# Altium schematic symbol library Design III Symbols.SchLib: 64 symbols
Pins are listed as number, name and electrical type; pins without a type are passive.

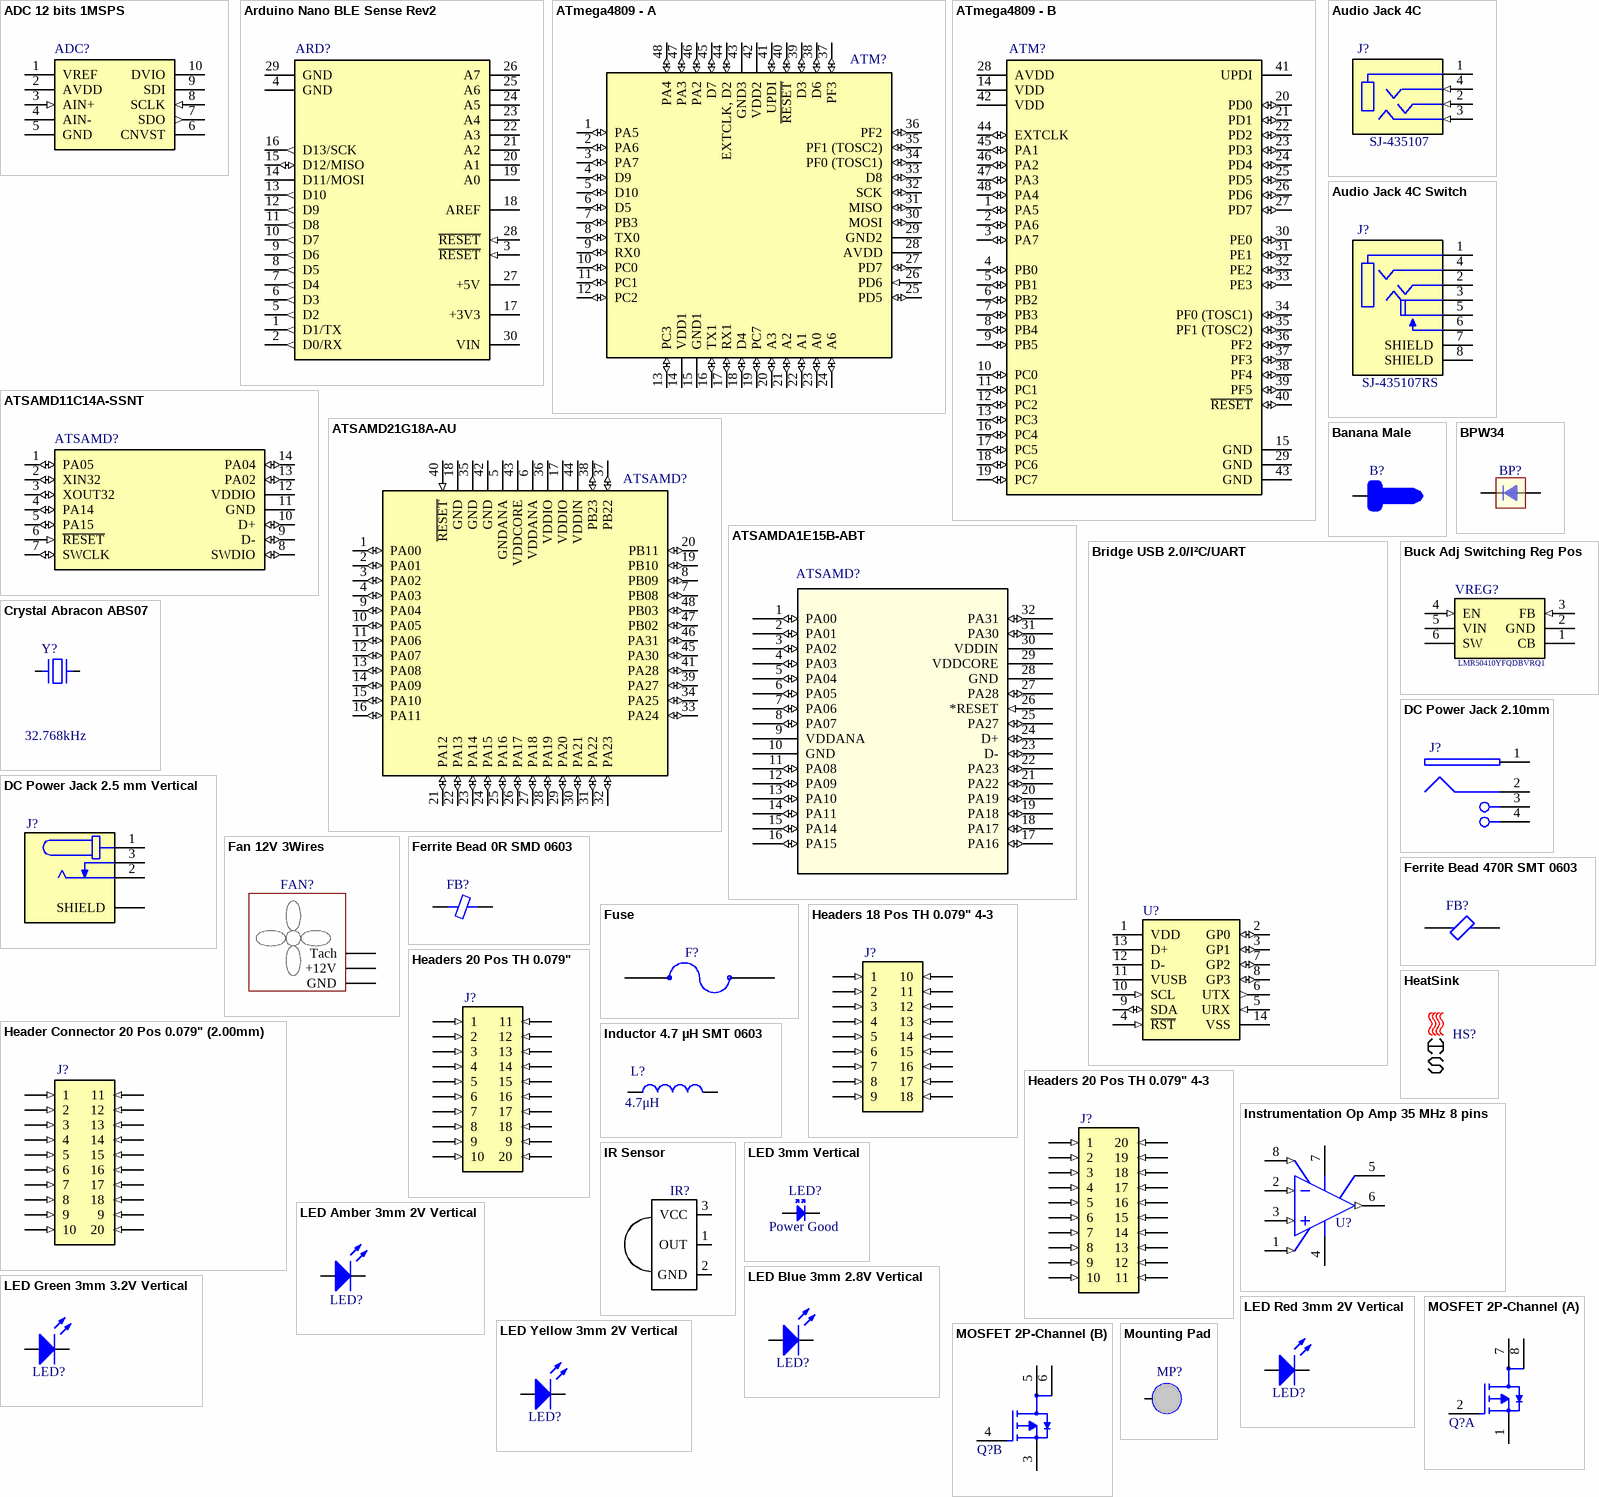
[diagram p0: symbols ADC 12 bits 1MSPS to Mounting Pad]

## ADC 12 bits 1MSPS
designator ADC?, comment MCP33141-10-E/MS  (value not drawn)
12 Bit Analog to Digital Converter 1 Input 1 SAR 10-MSOP; Supplier 1: Digi-Key; Supplier Part Number 1: MCP33141-10-E/MS-ND
footprint MCP33141-10-E/MS (12 Bit Analog to Digital Converter 1 Input 1 SAR 10-MSOP)
pins: 1 VREF (power), 2 AVDD (power), 3 AIN+ (in), 4 AIN-, 5 GND (power), 6 CNVST, 7 SDO (out), 8 SCLK (in), 9 SDI, 10 DVIO (power)

## Arduino Nano BLE Sense Rev2
designator ARD?
ABX00069, nRF52840 64MHz, 256 KB SRAM, 1MB flash, 14 I/O pins, 8 Analog inputs; Supplier 1: Digi-Key; Supplier Part Number 1: 1050-ABX00069-ND; ComponentLink1Description: Datasheet; ComponentLink1URL: https://docs.arduino.cc/static/65becb67a4b40fb616bb6af2730da4c7/ABX00069-datasheet.pdf; ComponentLink2Description: Pinout; ComponentLink2URL: https://docs.arduino.cc/static/9954a74bd83e85753daa710cb3e36c7d/ABX00069-full-pinout.pdf; ComponentLink3Description: Schematics; ComponentLink3URL: https://docs.arduino.cc/static/e36f3575dfede10661305c9971c3e7ed/ABX00069-schematics.pdf
footprint Arduino Nano BLE Sense Rev2 A (ABX00069, nRF52840 64MHz, 256 KB SRAM, 1MB flash, 14 I/O pins, 8 Analog inputs)
footprint Arduino Nano BLE Sense Rev2 B (ABX00069, nRF52840 64MHz, 256 KB SRAM, 1MB flash, 14 I/O pins, 8 Analog inputs)
pins: 1 D1/TX (out), 2 D0/RX (out), 3 ~{RESET} (in), 4 GND (power), 5 D2 (out), 6 D3 (out), 7 D4 (out), 8 D5 (out), 9 D6 (out), 10 D7 (out), 11 D8 (out), 12 D9 (out), 13 D10 (out), 14 D11/MOSI (hiz), 15 D12/MISO (io), 16 D13/SCK (out), 17 +3V3 (power), 18 AREF, 19 A0 (hiz), 20 A1 (hiz), 21 A2 (hiz), 22 A3 (hiz), 23 A4 (hiz), 24 A5 (hiz), 25 A6 (hiz), 26 A7 (hiz), 27 +5V (power), 28 ~{RESET} (in), 29 GND (power), 30 VIN (power)

## ATmega4809 - A
designator ATM?, comment ATMEGA4809-AU  (value not drawn)
AVR megaAVR® 0, Functional Safety (FuSa) Microcontroller IC 8-Bit 20MHz 48KB (24K x 16) FLASH 48-TQFP (7x7); Manufacturer_Name: Microchip; Manufacturer_Part_Number: ATMEGA4809-AFR; Geometry.Height: 1.2mm; Mouser Part Number: 556-ATMEGA4809-AFR; Mouser Price/Stock: https://www.mouser.co.uk/ProductDetail/Microchip-Technology-Atmel/ATMEGA4809-AFR?qs=lYGu3FyN48fyX8GjkvcD6Q%3D%3D; Arrow Part Number: ATMEGA4809-AFR; Arrow Price/Stock: https://www.arrow.com/en/products/atmega4809-afr/microchip-technology?region=nac; Datasheet Link: https://datasheet.datasheetarchive.com/originals/distributors/DKDS41/DSANUWW0026740.pdf; Supplier 1: Digi-Key; Supplier Part Number 1: ATMEGA4809-AFRCT-ND; Supplier 2: Digi-Key; Supplier Part Number 2: ATMEGA4809-AFRDKR-ND
footprint ATmega4809 (AVR megaAVR® 0, Functional Safety (FuSa) Microcontroller IC 8-Bit 20MHz 48KB (24K x 16) FLASH 48-TQFP (7x7))
pins: 1 PA5 (io), 2 PA6 (io), 3 PA7 (io), 4 D9 (io), 5 D10 (io), 6 D5 (io), 7 PB3 (io), 8 TX0 (io), 9 RX0 (io), 10 PC0 (io), 11 PC1 (io), 12 PC2 (io), 13 PC3 (io), 14 VDD1 (power), 15 GND1 (power), 16 TX1 (io), 17 RX1 (io), 18 D4 (io), 19 PC7 (io), 20 A3 (io), 21 A2 (io), 22 A1 (io), 23 A0 (io), 24 A6 (io), 25 PD5 (io), 26 PD6 (in), 27 PD7 (io), 28 AVDD (power), 29 GND2 (power), 30 MOSI (io), 31 MISO (io), 32 SCK (io), 33 D8 (io), 34 PF0 (TOSC1) (io), 35 PF1 (TOSC2) (io), 36 PF2 (io), 37 PF3 (io), 38 D6 (io), 39 D3 (io), 40 ~{RESET} (io), 41 UPDI (io), 42 VDD2 (power), 43 GND3 (power), 44 EXTCLK, D2 (io), 45 D7 (io), 46 PA2 (io), 47 PA3 (io), 48 PA4 (io)

## ATmega4809 - B
designator ATM?, comment ATMEGA4809-AU  (value not drawn)
MICROCHIP - ATMEGA4809-AFR - MCU, 8BIT, ATMEGA, 20MHZ, TQFP-48; Supplier 1: Digi-Key; Supplier Part Number 1: 150-ATMEGA4809-AU-ND; Supplier 2: Digi-Key; Supplier Part Number 2: 150-ATMEGA4809-AURCT-ND; Supplier 3: Digi-Key; Supplier Part Number 3: 150-ATMEGA4809-AURDKR-ND; Supplier 4: Digi-Key; Supplier Part Number 4: 150-ATMEGA4809-AURTR-ND
footprint ATmega4809 (AVR megaAVR® 0, Functional Safety (FuSa) Microcontroller IC 8-Bit 20MHz 48KB (24K x 16) FLASH 48-TQFP (7x7))
pins: 1 PA5 (io), 2 PA6 (io), 3 PA7 (io), 4 PB0 (io), 5 PB1 (io), 6 PB2 (io), 7 PB3 (io), 8 PB4 (io), 9 PB5 (io), 10 PC0 (io), 11 PC1 (io), 12 PC2 (io), 13 PC3 (io), 14 VDD (power), 15 GND (oe), 16 PC4 (io), 17 PC5 (io), 18 PC6 (io), 19 PC7 (io), 20 PD0 (io), 21 PD1 (io), 22 PD2 (io), 23 PD3 (io), 24 PD4 (io), 25 PD5 (io), 26 PD6 (io), 27 PD7 (io), 28 AVDD (power), 29 GND (power), 30 PE0 (io), 31 PE1 (io), 32 PE2 (io), 33 PE3 (io), 34 PF0 (TOSC1) (io), 35 PF1 (TOSC2) (io), 36 PF2 (io), 37 PF3 (io), 38 PF4 (io), 39 PF5 (io), 40 ~{RESET} (io), 41 UPDI, 42 VDD (power), 43 GND (power), 44 EXTCLK (io), 45 PA1 (io), 46 PA2 (io), 47 PA3 (io), 48 PA4 (io)

## ATSAMD11C14A-SSNT
designator ATSAMD?
ARM® Cortex®-M0+ SAM D11C Microcontroller IC 32-Bit Single-Core 48MHz 16KB (16K x 8) FLASH 14-SOIC; Supplier 1: Digi-Key; Supplier Part Number 1: ATSAMD11C14A-SSNTCT-ND; Supplier 2: Digi-Key; Supplier Part Number 2: ATSAMD11C14A-SSNTDKR-ND
footprint ATSAMD11C14A-SSNT (ARM® Cortex®-M0+ SAM D11C Microcontroller IC 32-Bit Single-Core 48MHz 16KB (16K x 8) FLASH 14-SOIC)
pins: 1 PA05 (io), 2 XIN32 (io), 3 XOUT32 (io), 4 PA14 (io), 5 PA15 (io), 6 ~{RESET} (in), 7 SWCLK (io), 8 SWDIO (io), 9 D- (io), 10 D+ (io), 11 GND (power), 12 VDDIO (power), 13 PA02 (io), 14 PA04 (io)

## ATSAMD21G18A-AU
designator ATSAMD?
ARM® Cortex®-M0+ SAM D21G, Functional Safety (FuSa) Microcontroller IC 32-Bit Single-Core 48MHz 256KB (256K x 8) FLASH 48-TQFP (7x7); Supplier 1: Digi-Key; Supplier Part Number 1: ATSAMD21G18A-AU-ND; ComponentLink1Description: Datasheet; ComponentLink1URL: https://ww1.microchip.com/downloads/en/DeviceDoc/SAM-D21-DA1-Family-Data-Sheet-DS40001882H.pdf; ComponentLink2Description: Arduino Zero; ComponentLink2URL: https://docs.arduino.cc/hardware/zero
footprint ATSAMD21G18-AU (ARM® Cortex®-M0+ SAM D21G, Functional Safety (FuSa) Microcontroller IC 32-Bit Single-Core 48MHz 256KB (256K x 8) FLASH 48-TQFP (7x7))
pins: 1 PA00 (io), 2 PA01 (io), 3 PA02 (io), 4 PA03 (io), 5 GNDANA (power) "Ground for the analog power domain", 6 VDDANA (power) "Analog supply voltage", 7 PB08 (io), 8 PB09 (io), 9 PA04 (io), 10 PA05 (io), 11 PA06 (io), 12 PA07 (io), 13 PA08 (io), 14 PA09 (io), 15 PA10 (io), 16 PA11 (io), 17 VDDIO (power) "Digital supply voltage", 18 GND (power) "Ground", 19 PB10 (io), 20 PB11 (io), 21 PA12 (io), 22 PA13 (io), 23 PA14 (io), 24 PA15 (io), 25 PA16 (io), 26 PA17 (io), 27 PA18 (io), 28 PA19 (io), 29 PA20 (io), 30 PA21 (io), 31 PA22 (io), 32 PA23 (io), 33 PA24 (io), 34 PA25 (io), 35 GND (power) "Ground", 36 VDDIO (power) "Digital supply voltage", 37 PB22 (io), 38 PB23 (io), 39 PA27 (io), 40 ~{RESET} (in) "Reset pin", 41 PA28 (io), 42 GND (power) "Ground", 43 VDDCORE (power) "Core supply voltage / external decoupling pin", 44 VDDIN (power), 45 PA30 (io), 46 PA31 (io), 47 PB02 (io), 48 PB03 (io)

## ATSAMDA1E15B-ABT
designator ATSAMD?
ARM® Cortex®-M0+ SAM DA1, Functional Safety (FuSa) Microcontroller IC 32-Bit Single-Core 48MHz 32KB (32K x 8) FLASH 32-TQFP (7x7); Supplier 1: Digi-Key; Supplier Part Number 1: ATSAMDA1E15B-ABTCT-ND; Supplier 2: Digi-Key; Supplier Part Number 2: ATSAMDA1E15B-ABTDKR-ND
footprint ATSAMDA1E15B-ABT
pins: 1 PA00 (io), 2 PA01 (io), 3 PA02 (io), 4 PA03 (io), 5 PA04 (io), 6 PA05 (io), 7 PA06 (io), 8 PA07 (io), 9 VDDANA (power), 10 GND (power), 11 PA08 (io), 12 PA09 (io), 13 PA10 (io), 14 PA11 (io), 15 PA14 (io), 16 PA15 (io), 17 PA16 (io), 18 PA17 (io), 19 PA18 (io), 20 PA19 (io), 21 PA22 (io), 22 PA23 (io), 23 D- (io), 24 D+ (io), 25 PA27 (io), 26 *RESET (in), 27 PA28 (io), 28 GND (power), 29 VDDCORE (power), 30 VDDIN (power), 31 PA30 (io), 32 PA31 (io)

## Audio Jack 4C
designator J?, comment SJ-435107
Female 4C/4C Shielded Through Hole Right Angle 3.5 mm Audio Jack; Availability: Unavailable; Price: None; Package: None; MP: SJ-435107; Value: *; Supplier 1: Digi-Key; Supplier Part Number 1: CP-435107-ND; Supplier 2: Digi-Key; Supplier Part Number 2: CP-435107RS-ND
footprint Audio Jack 4 cond
footprint Audio Jack 4 cond 3D
pins: 1 SLEEVE (power), 2 TIP (in), 3 RING1 (in), 4 RING2 (in)

## Audio Jack 4C Switch
designator J?, comment SJ-435107RS
3.5 mm Right Angle Shielded (0.141", 1/8", Mini Plug) Female HeadPhone Jack; Availability: Unavailable; Price: None; Package: None; MP: SJ-435107RS; Value: *; Supplier 1: Digi-Key; Supplier Part Number 1: CP-435107RS-ND
footprint Audio Jack 4C Switch
footprint Audio Jack 4C Switch 3D
pins: 1 SLEEVE, 2 TIP, 3 RING1, 4 RING2, 5 ISOLATED_RING1, 6 ISOLATED_RING1_SWITCH(N-O), 7 SHIELD, 8 SHIELD

## Banana Male
designator B?
footprint Banane Male (Johnson 108-0753-001)
pins: 1

## BPW34
designator BP?
Photodiode
footprint BPW34 (BPW34 Trough Hole)
pins: 1, 2

## Bridge USB 2.0/I²C/UART
designator U?, comment MCP2221A-I/SL  (value not drawn)
USB Bridge, USB to I²C/UART USB 2.0 I²C, UART Interface 14-SOIC; USB Standard: USB 2.0; Max Supply Voltage: 5.5V; Supplier 1: Digi-Key; Supplier Part Number 1: MCP2221A-I/SL-ND
footprint MCP2221A-I/SL (USB Bridge, USB to I²C/UART USB 2.0 I²C, UART Interface 14-SOIC)
pins: 1 VDD (power), 2 GP0 (io), 3 GP1 (io), 4 ~{RST} (in), 5 URX (in), 6 UTX (out), 7 GP2 (io), 8 GP3 (io), 9 SDA (io), 10 SCL (in), 11 VUSB (power), 12 D- (power), 13 D+ (power), 14 VSS (power)
text: /

## Buck Adj Switching Reg Pos
designator VREG?, comment LMR50410YFQDBVRQ1
Buck Switching Regulator IC Positive Adjustable 1V 1 Output 1A SOT-23-6; Manufacturer_Name: Texas Instruments; Datasheet Link: https://www.ti.com/product/LMR50410-Q1; Height: 1.45mm; Manufacturer_Part_Number: LMR50410YFQDBVRQ1; Mouser Part Number: 595-MR50410YFQDBVRQ1; Mouser Price/Stock: https://www.mouser.co.uk/ProductDetail/Texas-Instruments/LMR50410YFQDBVRQ1?qs=81r%252BiQLm7BRUAgUFqYZycA%3D%3D; Arrow Part Number: LMR50410YFQDBVRQ1; Arrow Price/Stock: https://www.arrow.com/en/products/lmr50410yfqdbvrq1/texas-instruments?region=nac; Supplier 1: Digi-Key; Supplier Part Number 1: 296-LMR50410YFQDBVRQ1CT-ND; Supplier 2: Digi-Key; Supplier Part Number 2: 296-LMR50410YFQDBVRQ1DKR-ND; Supplier 3: Digi-Key; Supplier Part Number 3: 296-LMR50410YFQDBVRQ1TR-ND
footprint LMR50410YFQDBVRQ1 (Buck Switching Regulator IC Positive Adjustable 1V 1 Output 1A SOT-23-6)
pins: 1 CB (power), 2 GND (power), 3 FB (in), 4 EN (in), 5 VIN (power), 6 SW (power)

## Crystal Abracon ABS07
designator Y?, comment value 32.768kHz  (hidden comment: ABS07-120-32.768KHZ-T)
32.768 kHz ±20ppm Crystal 6pF 55 kOhms 2-SMD, No Lead; Manufacturer: Abracon LLC; Operating Mode: Fundamental; Part Number: ABS07-120-32.768KHZ-T; ComponentLink1Description: Datasheet; ComponentLink1URL: https://abracon.com/Resonators/ABS07-120-32.768kHz-T.pdf; ComponentLink2Description: DigiKey Link; ComponentLink2URL: https://www.digikey.com/en/products/detail/abracon-llc/ABS07-120-32-768KHZ-T/3724043; ESR (Equivalent Series Resistance): 55 kOhms; Frequency Tolerance: ±20ppm; Height - Seated (Max): 0.035" (0.90mm); LastUpdated: 2023-03-06 20:57:22; Lifecycle Status: Active; Load Capacitance: 6pF; Minimum Order: 1; Mounting Type: Surface Mount; Operating Temperature: -40°C ~ 85°C; Package / Case: 2-SMD, No Lead; Packaging: TapeAndReel; PartId: 385; Part Status: Active; Price: 0.44; Series: ABS07; Size / Dimension: 0.126" L x 0.059" W (3.20mm x 1.50mm); Type: kHz Crystal (Tuning Fork); Supplier 1: Digi-Key; Supplier Part Number 1: 535-11937-1-ND; Supplier 2: Digi-Key; Supplier Part Number 2: 535-11937-6-ND; Supplier 3: Digi-Key; Supplier Part Number 3: 535-11937-2-ND; Frequency: 32.768 kHz
footprint ABS07-120-32.768KHZ-T A (32.768 kHz ±20ppm Crystal 6pF 55 kOhms 2-SMD, No Lead)
footprint ABS07-120-32.768KHZ-T B (32.768 kHz ±20ppm Crystal 6pF 55 kOhms 2-SMD, No Lead)
pins: 1, 2

## DC Power Jack 2.5 mm Vertical
designator J?, comment PJ-090BH  (value not drawn)
Power Barrel Connector Jack 2.50mm ID (0.098"), 5.50mm OD (0.217") Through Hole; Shielding: Shielded; Voltage Rating: 25V; Current Rating: 5A; Min Operating Temperature: -25°C; Max Operating Temperature: 85°C; Contact Material - Plating: Silver; Housing Material: Polyamide (PA10T), Nylon 10T; Contact Material: Brass, Copper Alloy; Supplier 1: Digi-Key; Supplier Part Number 1: 2223-PJ-090BHCT-ND; Supplier 2: Digi-Key; Supplier Part Number 2: 2223-PJ-090BHDKR-ND; Supplier 3: Digi-Key; Supplier Part Number 3: 2223-PJ-090BHTR-ND
footprint DC Power Jack 2.5 mm (Power Barrel Connector Jack 2.50mm ID (0.098"), 5.50mm OD (0.217") Through Hole)
pins: 1, 2, 3, S1 SHIELD

## DC Power Jack 2.10mm
designator J?, comment PJ-063AH  (value not drawn)
Power Barrel Connector Jack 2.10mm ID (0.083"), 5.50mm OD (0.217") Through Hole, Right Angle; Current Rating: 8A; Shielding: Shielded; Voltage Rating: 24V; Insulation Resistance: 100MR; Number of Conductors: 2; Supplier 1: Digi-Key; Supplier Part Number 1: CP-063AH-ND; ComponentLink1Description: Datasheet; ComponentLink1URL: https://www.cuidevices.com/product/resource/pj-063ah.pdf; Max Operating Temperature: 85°C; Min Operating Temperature: -25°C; Contact Material: Copper; Contact Plating: Nickel; Flammability Rating: UL94 V-0
footprint DC Power Jack 2.1mm (PJ-063AH)
pins: 1, 2, 3 SHLD, 4 SHLD

## Fan 12V 3Wires
designator FAN?  (value not drawn)
footprint FAN 12V 3 WIRES + HS
pins: 1 GND (power), 2 +12V (power), 3 Tach

## Ferrite Bead 0R SMD 0603
designator FB?, comment MFBM1V1608-000-R  (value not drawn)
0Ω 1 Power Line Ferrite Bead 0603 (1608 Metric) 6A 20mOhm; Manufacturer: Eaton - Electronics Division; Impedance @ Frequency: 0 Ohms @ 100 MHz; Number of Lines: 1; Value: 0 Ohms @ 100 MHz; Part Number: MFBM1V1608-000-R; ComponentLink1Description: Datasheet; ComponentLink1URL: https://www.eaton.com/content/dam/eaton/products/electronic-components/resources/data-sheet/eaton-mfbm1v1608-high-current-multilayer-ferrite-chip-bead-data-sheet.pdf; ComponentLink2Description: DigiKey Link; ComponentLink2URL: https://www.digikey.com/en/products/detail/eaton-electronics-division/MFBM1V1608-000-R/13161356; Current Rating (Max): 6A; DC Resistance (DCR) (Max): 20mOhm; Device Package: 0603 (1608 Metric); Filter Type: Power Line; Height (Max): 0.039" (1.00mm); LastUpdated: 2023-03-12 7:51:35 PM; Lifecycle Status: Active; Minimum Order: 1; Mounting Type: Surface Mount; Operating Temperature: -40°C ~ 85°C; Package / Case: 0603 (1608 Metric); Packaging: TapeAndReel; PartId: 2605; Part Status: Active; Price: 0.01; Series: MFBM1V1608; Size / Dimension: 0.063" L x 0.031" W (1.60mm x 0.80mm); Supplier 1: Digi-Key; Supplier Part Number 1: 283-MFBM1V1608-000-RCT-ND; Supplier 2: Digi-Key; Supplier Part Number 2: 283-MFBM1V1608-000-RDKR-ND
footprint Eaton Ferrite Bead 0603 (Power Line Ferrite Bead 0603 (1608 Metric))
pins: 1, 2

## Ferrite Bead 470R SMT 0603
designator FB?, comment BLM18PG471SN1D  (value not drawn)
470 Ω @ 100 MHz 1 Power Line Ferrite Bead 0603 (1608 Metric) 1A 200mOhm; Manufacturer: Murata Electronics; Impedance @ Frequency: 470 Ohms @ 100 MHz; Number of Lines: 1; Part Number: BLM18PG471SN1D; ComponentLink1Description: Datasheet; ComponentLink1URL: https://www.murata.com/en-us/products/productdata/8796738650142/ENFA0003.pdf; ComponentLink2Description: DigiKey Link; ComponentLink2URL: https://www.digikey.com/en/products/detail/murata-electronics/BLM18PG471SN1D/1948328; Current Rating (Max): 1A; DC Resistance (DCR) (Max): 200mOhm; Device Package: 0603 (1608 Metric); Filter Type: Power Line; Height (Max): 0.037" (0.95mm); LastUpdated: 2023-03-06 20:49:55; Lifecycle Status: Active; Minimum Order: 1; Mounting Type: Surface Mount; Operating Temperature: -55°C ~ 125°C; Package / Case: 0603 (1608 Metric); Packaging: TapeAndReel; PartId: 856; Part Status: Active; Price: 0.02; Series: EMIFIL®, BLM18; Size / Dimension: 0.063" L x 0.032" W (1.60mm x 0.80mm); Value: 470 Ω @ 100 MHz; Supplier 1: Digi-Key; Supplier Part Number 1: 490-5223-1-ND; Supplier 2: Digi-Key; Supplier Part Number 2: 490-5223-6-ND; Supplier 3: Digi-Key; Supplier Part Number 3: 490-5223-2-ND
footprint Ferrite Bead 470R SMT 0603 (470 Ohms @ 100 MHz 1 Power Line Ferrite Bead 0603 (1608 Metric) 1A 200mOhm)
pins: 1, 2

## Fuse
designator F?
Fuse
footprint Fuse Holder 3mm
pins: 1, 2

## Header Connector 20 Pos 0.079" (2.00mm)
designator J?, comment NPPN102AFCN-RC  (value not drawn)
20 Position Header Connector 0.079" (2.00mm) Through Hole Gold; Supplier 1: Digi-Key; Supplier Part Number 1: S5750-10-ND
footprint Header Connector 20 Pos 0.079" (2.00mm) - A (20 Position Header Connector 0.079" (2.00mm) Through Hole Gold)
footprint Header Connector 20 Pos 0.079" (2.00mm) - B
pins: 1 (in), 2 (in), 3 (in), 4 (in), 5 (in), 6 (in), 7 (in), 8 (in), 9 (in), 10 (in), 11 (in), 12 (in), 13 (in), 14 (in), 15 (in), 16 (in), 17 (in), 18 (in), 19 9 (in), 20 (in)

## Headers 18 Pos TH 0.079" 4-3
designator J?, comment BF050-18-A-B-0400-0300-L-G  (value not drawn)
Connector Header Through Hole 18 position 0.079" (2.00mm); Supplier 1: Digi-Key; Supplier Part Number 1: 2073-BF050-18-A-B-0400-0300-L-G-ND
footprint Headers 20 Pos TH 0.079" A (Connector Header Through Hole 20 position 0.079" (2.00mm))
footprint Headers 20 Pos TH 0.079" B (Connector Header Through Hole 20 position 0.079" (2.00mm))
pins: 1 (in), 2 (in), 3 (in), 4 (in), 5 (in), 6 (in), 7 (in), 8 (in), 9 (in), 10 (in), 11 (in), 12 (in), 13 (in), 14 (in), 15 (in), 16 (in), 17 (in), 18 (in)

## Headers 20 Pos TH 0.079"
designator J?, comment BF050-20-A-B-0600-0300-L-G  (value not drawn)
Connector Header Through Hole 20 position 0.079" (2.00mm); Supplier 1: Digi-Key; Supplier Part Number 1: 2073-BF050-20-A-B-0600-0300-L-G-ND
footprint Headers 20 Pos TH 0.079" A (Connector Header Through Hole 20 position 0.079" (2.00mm))
footprint Headers 20 Pos TH 0.079" B (Connector Header Through Hole 20 position 0.079" (2.00mm))
pins: 1 (in), 2 (in), 3 (in), 4 (in), 5 (in), 6 (in), 7 (in), 8 (in), 9 (in), 10 (in), 11 (in), 12 (in), 13 (in), 14 (in), 15 (in), 16 (in), 17 (in), 18 (in), 19 9 (in), 20 (in)

## Headers 20 Pos TH 0.079" 4-3
designator J?, comment BF050-20-A-B-0400-0300-L-G  (value not drawn)
Connector Header Through Hole 20 position 0.079" (2.00mm); Supplier 1: Digi-Key; Supplier Part Number 1: 2073-BF050-20-A-B-0400-0300-L-G-ND
footprint Headers 20 Pos TH 0.079" 4-3 - A (Connector Header Through Hole 20 position 0.079" (2.00mm))
footprint Headers 20 Pos TH 0.079" 4-3 - B (Connector Header Through Hole 20 position 0.079" (2.00mm))
pins: 1 (in), 2 (in), 3 (in), 4 (in), 5 (in), 6 (in), 7 (in), 8 (in), 9 (in), 10 (in), 11 (in), 12 (in), 13 (in), 14 (in), 15 (in), 16 (in), 17 (in), 18 (in), 19 (in), 20 (in)

## HeatSink
designator HS?  (value not drawn)
footprint FAN 12V 3 WIRES + HS
footprint HeatSink V8511W Assmann

## Inductor 4.7 µH SMT 0603
designator L?, comment value 4.7μH  (hidden comment: ILSB0603ER4R7K)
4.7 µH Shielded Multilayer Inductor 15 mA 2.1Ohm Max 0603 (1608 Metric); Tolerance: 10%; Core Material: Ferrite; Self Resonant Frequency: 41MHz; Case Code (Imperial): 1206; Min Operating Temperature: -55°C; Max Operating Temperature: 125°C; Width: 1.6mm; Depth: 1.8mm; Weight: 0.000353oz; ComponentLink1Description: Datasheet; ComponentLink1URL: https://www.vishay.com/docs/34029/ilsb1206.pdf; Supplier 1: Digi-Key; Supplier Part Number 1: 541-4369-1-ND; Supplier 2: Digi-Key; Supplier Part Number 2: 541-4369-6-ND
footprint Inductor 4.7 uH SMT 0603 (4.7 µH Shielded Multilayer Inductor 15 mA 2.1Ohm Max 0603 (1608 Metric))
pins: 1, 2

## Instrumentation Op Amp 35 MHz 8 pins
designator U?, comment MCP6N11-100E/SN  (value not drawn)
Instrumentation Amplifier 1 Circuit Rail-to-Rail 8-SOIC; Supplier 1: Digi-Key; Supplier Part Number 1: MCP6N11-100E/SN-ND
footprint MCP6N11-100E/SN (Instrumentation Amplifier 1 Circuit Rail-to-Rail 8-SOIC)
pins: 1 VFG (in), 2 VIM (in), 3 VIP (in), 4 VSS (power), 5 VREF (power), 6 VOUT (out), 7 VDD (power), 8 EN/~{CAL} (in)

## IR Sensor
designator IR?, comment TSOP34338  (value not drawn)
IR Sensor
footprint TSOP (IR Sensor)
pins: 1 OUT, 2 GND, 3 VCC

## LED 3mm Vertical
designator LED?, comment Power Good
LED 3mm
footprint LED 3mm Vertical
pins: 1 A, 2 K

## LED Amber 3mm 2V Vertical
designator LED?, comment INL-3AA30  (value not drawn)
Amber 610nm LED Indication - Discrete 2V Radial; Supplier 1: Digi-Key; Supplier Part Number 1: 1830-1001-ND
footprint Led 3 mm Vertical Clear
pins: 1 K, 2 A

## LED Blue 3mm 2.8V Vertical
designator LED?, comment 151033BS03000  (value not drawn)
Blue 470nm LED Indication - Discrete 2.8V Radial; Operating Voltage: 2.8V; Supplier 1: Digi-Key; Supplier Part Number 1: 732-5011-ND
footprint Led 3 mm Vertical Clear
pins: 1 K, 2 A

## LED Green 3mm 3.2V Vertical
designator LED?, comment 151033GS03000  (value not drawn)
Green 530nm LED Indication - Discrete 3.2V Radial; Supplier 1: Digi-Key; Supplier Part Number 1: 732-5012-ND; Operating Voltage: 3.2V
footprint Led 3 mm Vertical Clear
pins: 1 K, 2 A

## LED Red 3mm 2V Vertical
designator LED?, comment 151033RS03000  (value not drawn)
Red 621nm LED Indication - Discrete 2V Radial; Operating Voltage: 2V; Supplier 1: Digi-Key; Supplier Part Number 1: 732-5013-ND
footprint Led 3 mm Vertical Clear
pins: 1 K, 2 A

## LED Yellow 3mm 2V Vertical
designator LED?, comment 151033YS03000  (value not drawn)
Yellow 589nm LED Indication - Discrete 2V Radial; Supplier 1: Digi-Key; Supplier Part Number 1: 732-5014-ND
footprint Led 3 mm Vertical Clear
pins: 1 K, 2 A

## MOSFET 2P-Channel
designator Q?, comment IRF9362TRPBF  (value not drawn)
MOSFET 2P-CH 30V 8A 8SOIC; Turn-Off Delay Time: 115ns; Input Capacitance: 1.3nF; Rds On Max: 21mR; Drain to Source Resistance: 32mR; Threshold Voltage: -1.8V; Drain to Source Voltage (Vdss): -30V; Max Power Dissipation: 2W; Gate to Source Voltage (Vgs): 20V; Turn-On Delay Time: 5.2ns; REACH SVHC: No SVHC; Height: 0.059inch; Length: 0.196inch; RoHS Compliant: Yes; Series: HEXFET®; Min Operating Temperature: -55°C; Mount: Surface Mount; Width: 0.157inch; Lead Free: Lead Free; Case/Package: SO; Halogen Free: Halogen Free; Power Dissipation: 2W; Number of Pins: 8; Continuous Drain Current (ID): 8A; Max Operating Temperature: 150°C; Max Dual Supply Voltage: -30V; Packaging: Cut Tape; Supplier 1: Digi-Key; Supplier Part Number 1: IRF9362TRPBFCT-ND; Supplier 2: Digi-Key; Supplier Part Number 2: IRF9362TRPBFDKR-ND; Supplier 3: Digi-Key; Supplier Part Number 3: IRF9362TRPBFTR-ND
footprint MOSFET 2P-Channel
part A pins: 1 S1, 2 G1, 7 D1, 8 D1
part B pins: 3 S2, 4 G2, 5 D2, 6 D2

## Mounting Pad
designator MP?  (value not drawn)
footprint Mounting Hole
footprint Poteau Keystone 9082
pins: 0

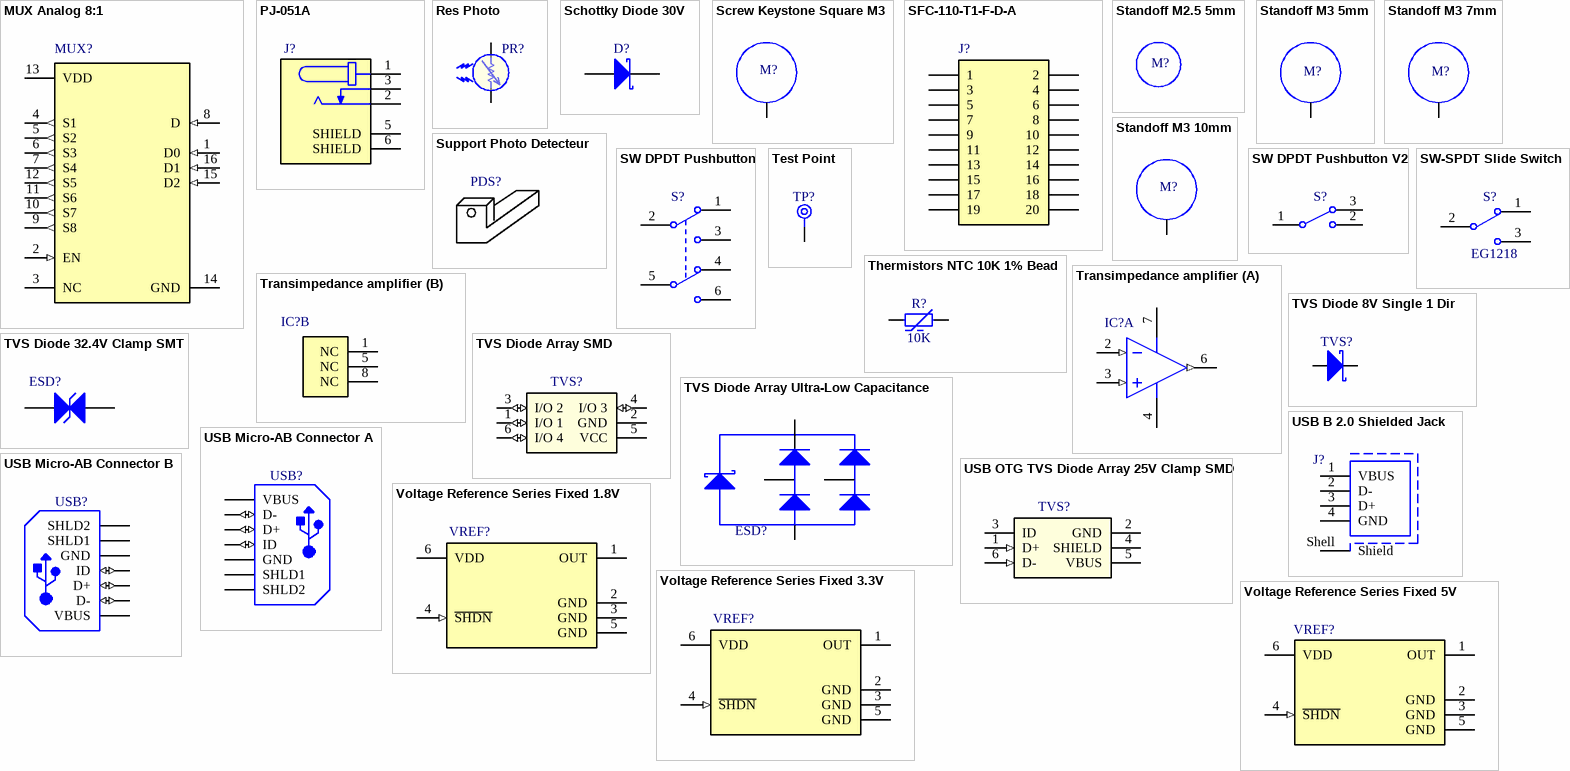
[diagram p1: symbols MUX Analog 8:1 to Voltage Reference Series Fixed 5V]

## MUX Analog 8:1
designator MUX?, comment TMUX1208PWR  (value not drawn)
5-V, 8: 1, 1-channel general-purpose analog multiplexer with 1.8-V input logic 16-TSSOP -40 to 125; Supplier 1: Digi-Key; Supplier Part Number 1: 296-51847-1-ND; Supplier 2: Digi-Key; Supplier Part Number 2: 296-51847-6-ND; Supplier 3: Digi-Key; Supplier Part Number 3: 296-51847-2-ND; ComponentLink1Description: Datasheet; ComponentLink1URL: https://www.ti.com/lit/ds/symlink/tmux1208.pdf?HQS=dis-dk-null-digikeymode-dsf-pf-null-wwe&ts=1678139087624&ref_url=https%253A%252F%252Fwww.ti.com%252Fgeneral%252Fdocs%252Fsuppproductinfo.tsp%253FdistId%253D10%2526gotoUrl%253Dhttps%253A%252F%252Fwww.ti.com%252Flit%252Fgpn%252Ftmux1208
footprint TMUX1208PWR (1 Circuit IC Switch 8:1 3Ohm (Typ) 16-TSSOP)
pins: 1 D0 (in), 2 EN (in), 3 NC (hiz), 4 S1 (out), 5 S2 (out), 6 S3 (out), 7 S4 (out), 8 D (in), 9 S8 (out), 10 S7 (out), 11 S6 (out), 12 S5 (out), 13 VDD (power), 14 GND (power), 15 D2 (in), 16 D1 (in)

## PJ-051A
designator J?  (value not drawn)
2.0 mm Center Pin, 2.5 A, Right Angle, Through Hole, Shielded, Dc Power Jack Connector; Value: *; Availability: Unavailable; Price: None; Package: None; MP: PJ-051A; Supplier 1: Digi-Key; Supplier Part Number 1: CP-051A-ND
footprint PJ-051A (DC Power Barrel Jack)
footprint PJ-051A 3D (DC Power Barrel Jack)
pins: 1 (power), 2 (power) "GND", 3 (power), 5 SHIELD (power), 6 SHIELD (power)

## Res Photo
designator PR?
Photo Cell
footprint Res Photo
pins: 1, 2

## Schottky Diode 30V
designator D?, comment NSR0530HT1G  (value not drawn)
Schottky Diode 30 V 500mA Surface Mount SOD-323; Manufacturer: ON Semiconductor; Capacitance @ Vr, F: 10pF @ 1V, 1MHz; Current - Average Rectified (Io): 500mA (DC); Current - Reverse Leakage @ Vr: 200µA @ 30V; Speed: Fast Recovery =< 500ns, > 200mA (Io); Voltage - DC Reverse (Vr) (Max): 30V; Voltage - Forward (Vf) (Max) @ If: 620mV @ 500mA; Part Number: NSR0530HT1G; ComponentLink1Description: Datasheet; ComponentLink1URL: http://www.onsemi.com/pub/Collateral/NSR0530H-D.PDF; ComponentLink2Description: DigiKey Link; ComponentLink2URL: http://digikey.com/product-detail/en/on-semiconductor/NSR0530HT1G/NSR0530HT1GOSCT-ND/5761654; Diode Type: Schottky; LastUpdated: 2023-03-06 21:08:52; Lifecycle Status: Active; Minimum Order: 1; Mounting Type: Surface Mount; Operating Temperature - Junction: -55°C ~ 150°C; Package / Case: SC-76, SOD-323; Packaging: TapeAndReel; PartId: 3077; Part Status: Active; Price: 0.03; Series: -; Supplier Device Package: SOD-323; Supplier 1: Digi-Key; Supplier Part Number 1: NSR0530HT1GOSCT-ND; Supplier 2: Digi-Key; Supplier Part Number 2: NSR0530HT1GOSDKR-ND; Supplier 3: Digi-Key; Supplier Part Number 3: NSR0530HT1GOSTR-ND
footprint Schottky Diode 30V SMT (NSR0530HT1G)
pins: 1, 2

## Screw Keystone Square M3
designator M?, comment 9923  (value not drawn)
M3x0.5 Binding Head Machine Screw Combination Drive Steel; Supplier 1: Digi-Key; Supplier Part Number 1: 36-9923-ND
footprint Keystone Square Washer M3
footprint Keystone Square Washer pad
pins: 1 CGND (power)

## SFC-110-T1-F-D-A
designator J?
Headers & Wire Housings .050 Tiger Eye Cost-Effective Reliable Socket Strip; Pitch: 0.05inch; Number of Contacts: 20; Voltage Rating (AC): 350V; Max Operating Temperature: 125°C; Min Operating Temperature: -55°C; Insulation Material: Polymer; Contact Finish - Mating: Gold; Contact Material: Bronze; Contact Plating: Gold; Row Spacing: 0.05inch; RoHS Compliant: Yes; Fastening Type: Pull; Termination: Solder; Supplier Part Number 1: SAM12821-ND; Supplier 1: Digi-Key
footprint SFC-110-T1-F-D-A (Headers & Wire Housings .050 Tiger Eye Cost-Effective Reliable Socket Strip)
footprint SFC-110-T1-F-D-A-2 (Headers & Wire Housings .050 Tiger Eye Cost-Effective Reliable Socket Strip)
pins: 1, 2, 3, 4, 5, 6, 7, 8, 9, 10, 11, 12, 13, 14, 15, 16, 17, 18, 19, 20

## Standoff M2.5 5mm
designator M?, comment 971050154  (value not drawn)  (no BOM)
Hex Standoff Threaded M2.5 Brass 0.197" (5.00mm) Silver; Supplier 1: Digi-Key; Supplier Part Number 1: 732-12896-ND; ComponentLink1Description: Datasheet; ComponentLink1URL: https://www.we-online.com/components/products/datasheet/971050154.pdf; Thread Size: M2.5
footprint Standoff M2.5 Brass (Hex Standoff Threaded M2.5 Brass 0.197" (5.00mm) Silver)
footprint Standoff M2.5 Pad (Hex Standoff Threaded M2.5 Brass 0.197")

## Standoff M3 5mm
designator M?, comment 971050354  (value not drawn)
Hex Standoff Threaded M3 Brass 0.197" (5.00mm) Silver; Supplier 1: Digi-Key; Supplier Part Number 1: 732-12899-ND
footprint Standoff M3 5mm Brass (Hex Standoff Threaded M3 Brass 0.197" (5.00mm) Silver)
footprint Standoff M3 Pad (Hex Standoff Threaded M3)
footprint Keystone Square Washer pad
footprint Standoff Brass M3 5mm SW
footprint Standoff Brass M3 5mm SSW
pins: 1 CGND (power)

## Standoff M3 7mm
designator M?, comment R30-3000702  (value not drawn)
Hex Standoff Threaded M3x0.5 Brass 0.276" (7.00mm); Supplier 1: Digi-Key; Supplier Part Number 1: 952-1498-ND
footprint Standoff M3 7mm Brass (Hex Standoff Threaded M3x0.5 Brass 0.276" (7.00mm))
footprint Standoff M3 Pad (Hex Standoff Threaded M3)
footprint Keystone Square Washer pad
pins: 1 CGND (power)

## Standoff M3 10mm
designator M?, comment 24337  (value not drawn)  (no BOM)
Hex Standoff Threaded M3 Aluminum 0.394" (10.00mm); Supplier 1: Digi-Key; Supplier Part Number 1: 36-24337-ND; ComponentLink1Description: Datasheet; ComponentLink1URL: https://www.keyelco.com/userAssets/file/M65p76.pdf
footprint Standoff M3 10mm - B (Hex Standoff Threaded M3 Aluminum 0.394" (10.00mm))
footprint Standoff M3 10mm - A (Hex Standoff Threaded M3 Aluminum 0.394" (10.00mm))
pins: 1 CGND (power)

## Support Photo Detecteur
designator PDS?  (no BOM)
Support Photo Detecteur
footprint Support Photo Detecteur D2

## SW DPDT Pushbutton
designator S?, comment TL2230EEF100  (value not drawn)
Pushbutton Switch DPDT Standard Through Hole; Published: 24-Mar-1999; LatestRevisionDate: 29-May-2009; LatestRevisionNote: IPC-7351 Footprint Added.; PackageVersion: Mar-2001; PackageReference: SOT23-6; Publisher: Altium Limited; PackageDescription: 6-Pin SOT-23 Package 0.95 mm Pitch, 2.7 mm Lead Span; Code_JEITA: SC-74; Code_IPC: SOT26A-6; Supplier 1: Digi-Key; Supplier Part Number 1: EG6030-ND
footprint SW DPDT Pushbutton (Pushbutton Switch DPDT Standard Through Hole)
pins: 1 NC1, 2 COM1, 3 NO1, 4 NC2, 5 COM2, 6 NO2

## SW DPDT Pushbutton V2
designator S?, comment TL2230EEF100  (value not drawn)
Pushbutton Switch DPDT Standard Through Hole; Published: 24-Mar-1999; LatestRevisionDate: 29-May-2009; LatestRevisionNote: IPC-7351 Footprint Added.; PackageVersion: Mar-2001; PackageReference: SOT23-6; Publisher: Altium Limited; PackageDescription: 6-Pin SOT-23 Package 0.95 mm Pitch, 2.7 mm Lead Span; Code_JEITA: SC-74; Code_IPC: SOT26A-6; Supplier 1: Digi-Key; Supplier Part Number 1: EG6030-ND
footprint SW DPDT Pushbutton (Pushbutton Switch DPDT Standard Through Hole)
simulation model SPDT_SWITCH (Model Description)
pins: 1 NC1, 2 COM1, 3 NO1

## SW-SPDT Slide Switch
designator S?, comment EG1218
Slide Switch SPDT Through Hole; Supplier 1: Digi-Key; Supplier Part Number 1: EG1903-ND
footprint Slide Switch - A (Slide Switch SPDT Through Hole)
footprint Slide Switch - B (Slide Switch SPDT Through Hole)
pins: 1, 2 COM, 3

## Test Point
designator TP?  (no BOM)
Test Point
footprint SQ Pad (Pad)
footprint Test Point Loop
footprint Test Point Loop +18AWG (Test Point Loop)
footprint Test Point Round
pins: 1 TP

## Thermistors NTC 10K 1% Bead
designator R?, comment value 10K  (hidden comment: NTCLE413E2103F524A)
NTC Thermistor 10k Bead, Epoxy; Supplier 1: Digi-Key; Supplier Part Number 1: 56-NTCLE413E2103F524A-ND; ComponentLink1Description: Datasheet; ComponentLink1URL: https://www.vishay.com/docs/29078/ntcle413.pdf
footprint Thermistors NTC 10K 1% Bead - A (NTC Thermistor 10k Bead, Epoxy)
footprint Thermistors NTC 10K 1% Bead - B (NTC Thermistor 10k Bead, Epoxy)
pins: 1, 2

## Transimpedance amplifier
designator IC?, comment OPA381AIDGKR  (value not drawn)
Precision, Low Power, High-Speed Transimpedance Amplifier, 2.7 to 5.5 V, -40 to 125 degC, 8-pin SOP (DGK8), Green (RoHS & no Sb/Br); Manufacturer: Texas Instruments; Total Supply Voltage(Min)(+5V is 5, +/-5V is 10): 2.7; Iq per channel(Max)(mA): 1; CMRR(Min)(dB): 95; Sub Family: Low Offset Voltage Amplifier (<=500uV), Low Supply Voltage Amplifier (<=2.7V), Precision Amplifier; IIB(Max)(pA): 50; Offset Drift(Typ)(uV/C): 0.03; Vio (25C)(Max)(mV): 0.025; Slew Rate(Typ)(V/us): 12; Total Supply Voltage(Max)(+5V is 5, +/-5V is 10): 5.5; ComponentLink2Description: Datasheet; DatasheetVersion: SBOS313B; ComponentLink3Description: Package Specification; ComponentLink2URL: http://www.ti.com/general/docs/lit/getliterature.tsp?genericPartNumber=OPA381&fileType=pdf; PackageReference: DGK0008A; PackageVersion: 4073329/E, 05/2006; Mounting Technology: Surface Mount; PartNumber: OPA381AIDGKR; Eco-Plan: Green (RoHS & no Sb/Br); ComponentLink1Description: Manufacturer URL; Number of Channels: 1; ComponentLink1URL: http://www.ti.com/; Code_JEDEC: MO-187; ComponentLink3URL: http://www.ti.com/litv/pdf/mpds028d; PackageDescription: 8-Pin Thin Small Outline, Body 3 x 3 mm, Pitch 0.65 mm; Supplier 1: Digi-Key; Supplier Part Number 1: 296-46163-1-ND; Supplier 2: Digi-Key; Supplier Part Number 2: 296-46163-6-ND; Supplier 3: Digi-Key; Supplier Part Number 3: 296-46163-2-ND
footprint Transimpedance amplifier
part A pins: 2 IN- (in), 3 IN+ (in), 4 V- (power), 6 OUT (out), 7 V+ (power)
part B pins: 1 NC, 5 NC, 8 NC

## TVS Diode 8V Single 1 Dir
designator TVS?, comment PTVS3V3S1UR,115  (value not drawn)
8V Clamp 43.8A Ipp Tvs Diode Surface Mount SOD-123W; Supplier 1: Digi-Key; Supplier Part Number 1: 1727-5228-1-ND; Supplier 2: Digi-Key; Supplier Part Number 2: 1727-5228-6-ND; Supplier 3: Digi-Key; Supplier Part Number 3: 1727-5228-2-ND
footprint TVS Diode 8V Single 1 Dir (8V Clamp 43.8A Ipp Tvs Diode Surface Mount SOD-123W)
pins: 1 K, 2 A

## TVS Diode 32.4V Clamp SMT
designator ESD?, comment SMBJ20CA  (value not drawn)
32.4V Clamp 18.6A Ipp Tvs Diode Surface Mount SMB (DO-214AA); Max Power Dissipation: 600W; Diode Type: Zener; Element Configuration: Single; Reverse Standoff Voltage: 20V; Direction: Bidirectional; Max Breakdown Voltage: 25.5V; Min Breakdown Voltage: 22.2V; Max Surge Current: 100A; Peak Pulse Current: 18.6A; ComponentLink1Description: Datasheet; ComponentLink1URL: https://www.bourns.com/docs/Product-Datasheets/SMBJ.pdf; Supplier 1: Digi-Key; Supplier Part Number 1: SMBJ20CABCT-ND; Supplier 2: Digi-Key; Supplier Part Number 2: SMBJ20CABDKR-ND
footprint SMBJ20CA (32.4V Clamp 18.6A Ipp Tvs Diode Surface Mount SMB (DO-214AA))
pins: 1, 2

## TVS Diode Array SMD
designator TVS?, comment RCLAMP0504FA.TCT  (value not drawn)
25V Clamp 6A (8/20µs) Ipp Tvs Diode Surface Mount SC-70-6; Supplier 1: Digi-Key; Supplier Part Number 1: RCLAMP0504FATCTCT-ND; Supplier 2: Digi-Key; Supplier Part Number 2: RCLAMP0504FATCTDKR-ND; Supplier 3: Digi-Key; Supplier Part Number 3: RCLAMP0504FATCTTR-ND
footprint RCLAMP0504FA.TCT
pins: 1 I/O 1 (io), 2 GND (power), 3 I/O 2 (io), 4 I/O 3 (io), 5 VCC (power), 6 I/O 4 (io)

## TVS Diode Array Ultra-Low Capacitance
designator ESD?, comment PRTR5V0U2X,215  (value not drawn)
Clamp Ipp Tvs Diode Surface Mount SOT-143B; Supplier 1: Digi-Key; Supplier Part Number 1: 1727-3884-1-ND; Supplier 2: Digi-Key; Supplier Part Number 2: 1727-3884-6-ND; Supplier 3: Digi-Key; Supplier Part Number 3: 1727-3884-2-ND
footprint TVS Diode Array Ultra-Low Capacitance (Clamp Ipp Tvs Diode Surface Mount SOT-143B)
pins: 1 GND, 2 I/O 1, 3 I/O 2, 4 VCC

## USB B 2.0 Shielded Jack
designator J?, comment 61400413321  (value not drawn)
Straight PCB Mount Mount Female Type B USB Connector; 30 V ac; 1.5A; Manufacturer Part Number: 61400413321; Supplier 1: Digi-Key; Supplier Part Number 1: 732-2734-ND
footprint USB B 2.0 Shielded Jack (Straight PCB Mount Mount Female Type B USB Connector; 30 V ac; 1.5A)
pins: 1 VBUS, 2 D-, 3 D+, 4 GND, Shell Shield

## USB Micro-AB Connector A
designator USB?, comment USB3106-30-0230-A  (value not drawn)
USB - Micro AB 2.0 Receptacle Connector 5 Position, Vertical, Through Hole with 2.30 mm (Standard) Shell Stakes, 5-Pin THD, RoHS, Tape and Reel; Supplier 1: Newark; Supplier Part Number 1: 18X0232
footprint USB Micro-AB Connector B (USB - Micro AB 2.0 Receptacle Connector 5 Position, Vertical, Through Hole with 2.30 mm (Standard) Shell Stakes, 5-Pin THD, RoHS, Tape and Reel)
pins: 1 VBUS (power), 2 D- (io), 3 D+ (io), 4 ID (io), 5 GND (power), 6 SHLD1 (power), 7 SHLD2 (power)

## USB Micro-AB Connector B
designator USB?, comment USB3106-30-0230-A  (value not drawn)
USB - Micro AB 2.0 Receptacle Connector 5 Position, Vertical, Through Hole with 2.30 mm (Standard) Shell Stakes, 5-Pin THD, RoHS, Tape and Reel; Supplier 1: Newark; Supplier Part Number 1: 18X0232
footprint USB Micro-AB Connector B (USB - Micro AB 2.0 Receptacle Connector 5 Position, Vertical, Through Hole with 2.30 mm (Standard) Shell Stakes, 5-Pin THD, RoHS, Tape and Reel)
pins: 1 VBUS (power), 2 D- (io), 3 D+ (io), 4 ID (io), 5 GND (power), 6 SHLD1 (power), 7 SHLD2 (power)

## USB OTG TVS Diode Array 25V Clamp SMD
designator TVS?, comment RCLAMP0504FA.TCT  (value not drawn)
25V Clamp 6A (8/20µs) Ipp Tvs Diode Surface Mount SC-70-6; Supplier 1: Digi-Key; Supplier Part Number 1: RCLAMP0504FATCTCT-ND; Supplier 2: Digi-Key; Supplier Part Number 2: RCLAMP0504FATCTDKR-ND; Supplier 3: Digi-Key; Supplier Part Number 3: RCLAMP0504FATCTTR-ND
footprint RCLAMP0504FA.TCT
pins: 1 D+ (in), 2 GND (power), 3 ID, 4 SHIELD (power), 5 VBUS (power), 6 D- (in)

## Voltage Reference Series Fixed 1.8V
designator VREF?, comment MCP1501T-18E/CHY  (value not drawn)
Series Voltage Reference IC Fixed 1.8V V ±0.1% 20 mA SOT-23-6; Temperature Coefficient: 50ppm/°C; Output Current: 20mA; Tolerance: 0.08%; Operating Supply Current: 550μA; ComponentLink1Description: Datasheet; ComponentLink1URL: https://ww1.microchip.com/downloads/aemDocuments/documents/MSLD/ProductDocuments/DataSheets/MCP1501-Data-Sheet-DS20005474F.pdf; Reference Type: Series; Case/Package: SOT-23-6; Output Type: Fixed; Min Output Voltage: 1.8V; Min Operating Temperature: -40°C; Max Operating Temperature: 125°C; Supplier 1: Digi-Key; Supplier Part Number 1: MCP1501T-18E/CHYCT-ND; Supplier 2: Digi-Key; Supplier Part Number 2: MCP1501T-18E/CHYDKR-ND
footprint MCP1501T-XXE/CHY (Series Voltage Reference IC Fixed V ±0.1% 20 mA SOT-23-6)
pins: 1 OUT (power), 2 GND (power), 3 GND (power), 4 ~{SHDN} (in), 5 GND (power), 6 VDD (power)

## Voltage Reference Series Fixed 3.3V
designator VREF?, comment MCP1501T-33E/CHY  (value not drawn)
Series Voltage Reference IC Fixed 3.3V V ±0.1% 20 mA SOT-23-6; Temperature Coefficient: 50ppm/°C; Output Current: 20mA; Tolerance: 0.08%; Operating Supply Current: 550μA; ComponentLink1Description: Datasheet; ComponentLink1URL: https://ww1.microchip.com/downloads/aemDocuments/documents/MSLD/ProductDocuments/DataSheets/MCP1501-Data-Sheet-DS20005474F.pdf; Reference Type: Series; Case/Package: SOT-23-6; Output Type: Fixed; Min Output Voltage: 3.3V; Min Operating Temperature: -40°C; Max Operating Temperature: 125°C; Supplier 1: Digi-Key; Supplier Part Number 1: MCP1501T-33E/CHYCT-ND; Supplier 2: Digi-Key; Supplier Part Number 2: MCP1501T-33E/CHYDKR-ND; Supplier 3: Digi-Key; Supplier Part Number 3: MCP1501T-33E/CHYTR-ND
footprint MCP1501T-XXE/CHY (Series Voltage Reference IC Fixed V ±0.1% 20 mA SOT-23-6)
pins: 1 OUT (power), 2 GND (power), 3 GND (power), 4 ~{SHDN} (in), 5 GND (power), 6 VDD (power)

## Voltage Reference Series Fixed 5V
designator VREF?, comment MCP1501T-50E/CHY  (value not drawn)
Series Voltage Reference IC Fixed 5V V ±0.1% 20 mA SOT-23-6; Supplier 1: Digi-Key; Supplier Part Number 1: 150-MCP1501T-50E/CHYCT-ND; Supplier 2: Digi-Key; Supplier Part Number 2: 150-MCP1501T-50E/CHYDKR-ND; Supplier 3: Digi-Key; Supplier Part Number 3: 150-MCP1501T-50E/CHYTR-ND
footprint MCP1501T-XXE/CHY (Series Voltage Reference IC Fixed V ±0.1% 20 mA SOT-23-6)
pins: 1 OUT (power), 2 GND (power), 3 GND (power), 4 ~{SHDN} (in), 5 GND (power), 6 VDD (power)